# Altium schematic symbol library MercurialSDR.SchLib: 60 symbols
Pins are listed as number, name and electrical type; pins without a type are passive.

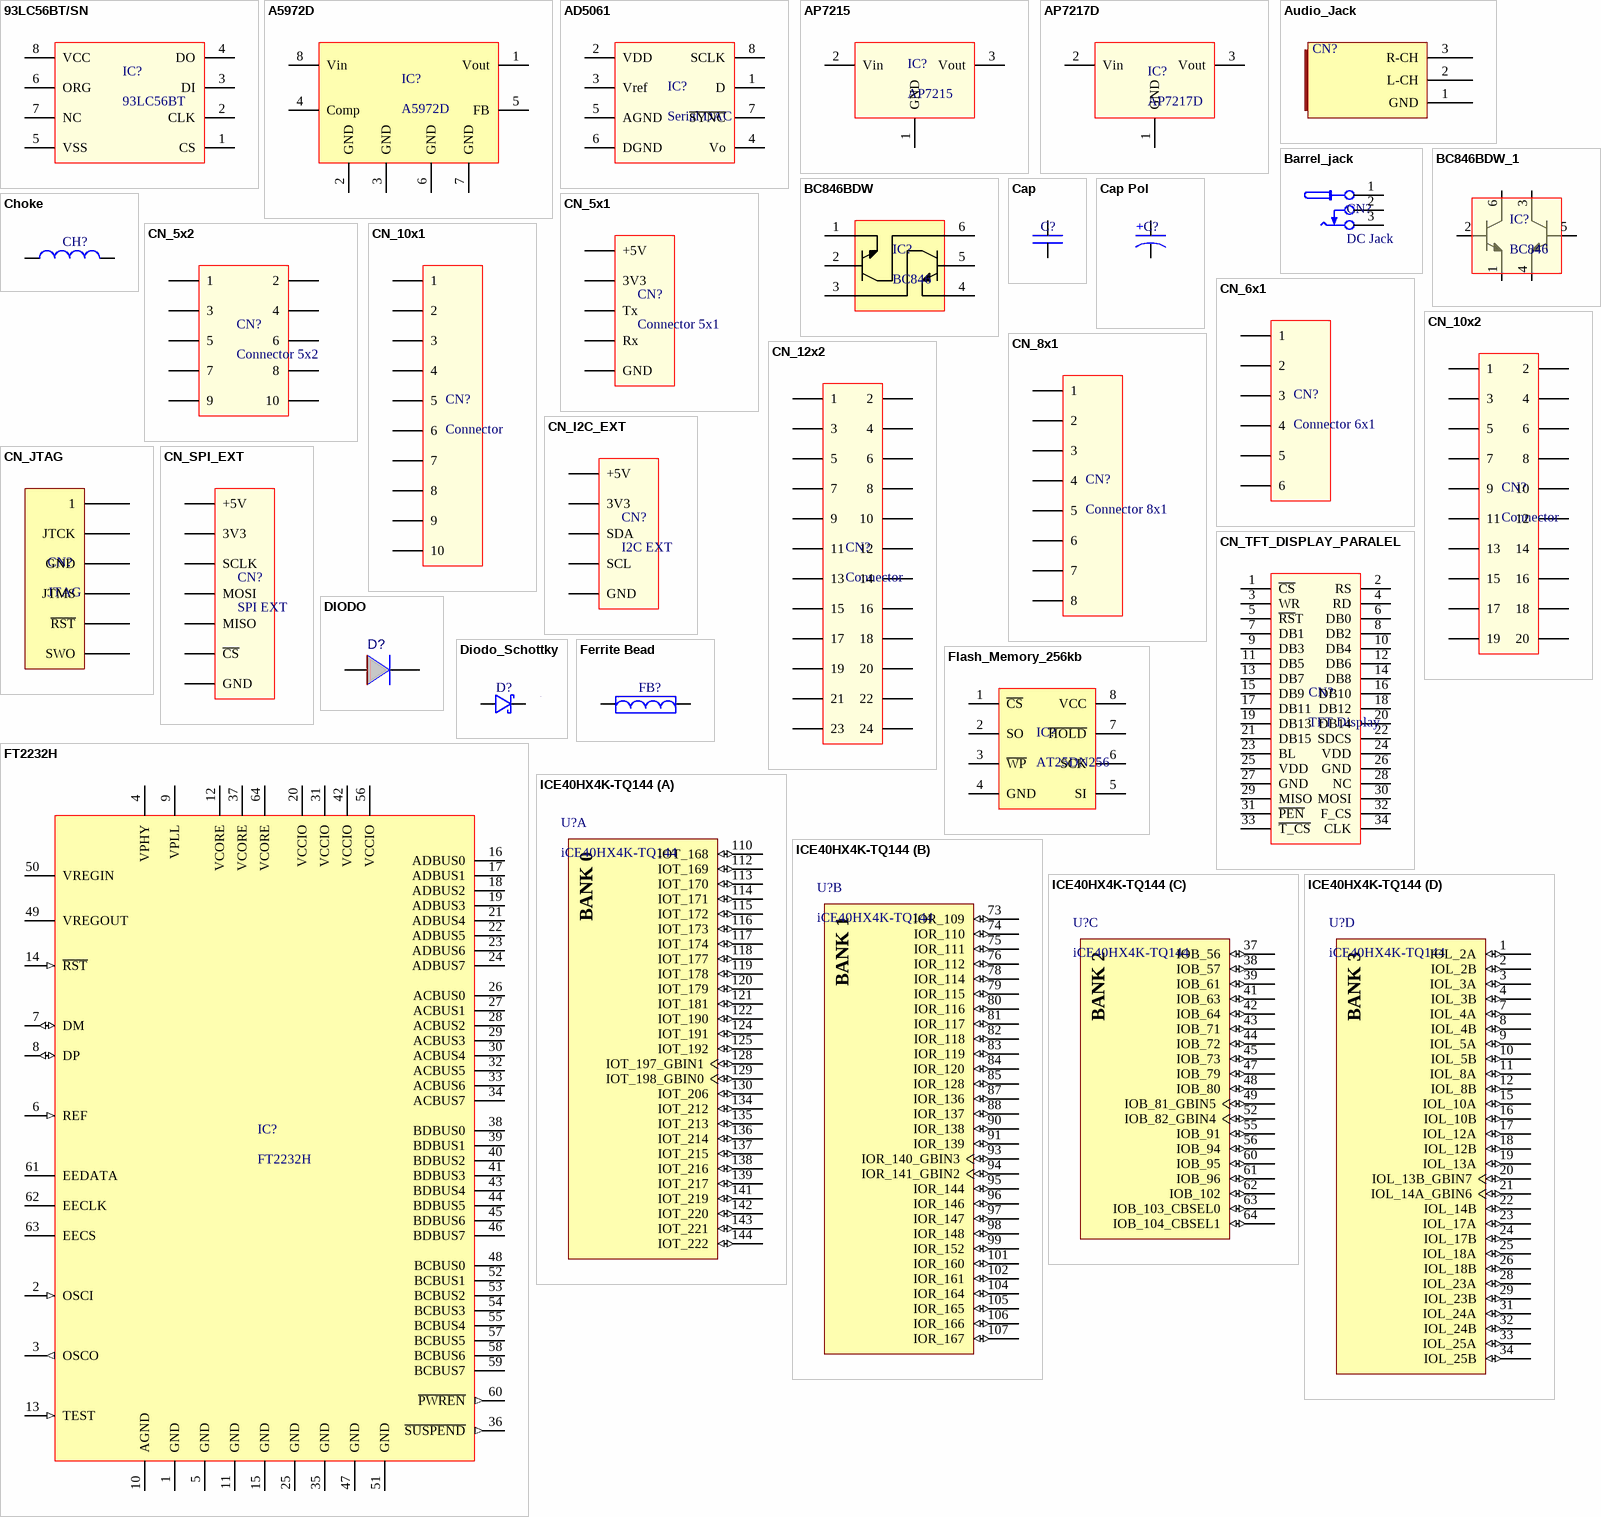
[diagram p0: symbols 93LC56BT/SN to ICE40HX4K-TQ144]

## 93LC56BT/SN
designator IC?, comment 93LC56BT
EEPROM SPI 2kb (128x16)
pins: 1 CS, 2 CLK, 3 DI, 4 DO, 5 VSS, 6 ORG, 7 NC, 8 VCC

## A5972D
designator IC?
Switching Regulator; Part Number: *
pins: 1 Vout, 2 GND, 3 GND, 4 Comp, 5 FB, 6 GND, 7 GND, 8 Vin

## AD5061
designator IC?, comment Serial DAC
DAC SPI; Bits: *; Part Number: *
footprint SOT-23-8
pins: 1 D "SPI Data Input", 2 VDD "Power Supply Input", 3 Vref "Reference Voltage Input", 4 Vo "Analog Voltage Output", 5 AGND "Analog Ground", 6 DGND "Digital Ground", 7 ~{SYNC} "Level Triggered Control Input", 8 SCLK "Serial Clock Input"

## AP7215
designator IC?
Linear Voltage Regulator 3v3; Part Number: *
pins: 1 GND, 2 Vin, 3 Vout

## AP7217D
designator IC?
Linear Voltage Regulator 1V2; Part Number: *
pins: 1 GND, 2 Vin, 3 Vout

## Audio_Jack
designator CN?, comment AUD_IN  (value not drawn)
Jack de audio estereo; Part Number: *
pins: 1 GND, 2 L-CH, 3 R-CH

## Barrel_jack
designator CN?, comment DC Jack
Part Number: *
pins: 1, 2, 3

## BC846BDW
designator IC?, comment BC846
TBJ NPN Dual; Part Number: *; Package: *
pins: 1 E_1, 2 B_1, 3 C_2, 4 E_2, 5 B_2, 6 C_1

## BC846BDW_1
designator IC?, comment BC846
TBJ NPN Dual; Part Number: *; Package: *
pins: 1 E_1, 2 B_1, 3 C_2, 4 E_2, 5 B_2, 6 C_1

## Cap
designator C?, comment Capacitor  (value not drawn)
Capacitor no polarizado; Value: *; Temp Coef: *; Part Number: *; VR: *; Material: *
footprint Cap_0805 (Capacitor SMD 0805)
footprint CAP_0603 (Capacitor SMD 0603)
pins: 1, 2

## Cap Pol
designator C?, comment Capacitor Polarizado  (value not drawn)
Value: *; Temp Coef: *; Part Number: *; VR: *; Material: *
pins: 1, 2
text: +

## Choke
designator CH?  (value not drawn)
Part Number: *; In: *
pins: 1, 2

## CN_5x1
designator CN?, comment Connector 5x1
Conector para UART o CAN
pins: 1 +5V, 2 3V3, 3 Tx, 4 Rx, 5 GND

## CN_5x2
designator CN?, comment Connector 5x2
Conector genérnico 5x2
pins: 1, 2, 3, 4, 5, 6, 7, 8, 9, 10

## CN_6x1
designator CN?, comment Connector 6x1
Conector genérico 6x1
pins: 1, 2, 3, 4, 5, 6

## CN_8x1
designator CN?, comment Connector 8x1
Conector genérico 8x1
pins: 1, 2, 3, 4, 5, 6, 7, 8

## CN_10x1
designator CN?, comment Connector
Conector genérico 10x1
pins: 1, 2, 3, 4, 5, 6, 7, 8, 9, 10

## CN_10x2
designator CN?, comment Connector
Conector genérico 10x2; Part Number: *
pins: 1, 2, 3, 4, 5, 6, 7, 8, 9, 10, 11, 12, 13, 14, 15, 16, 17, 18, 19, 20

## CN_12x2
designator CN?, comment Connector
Conector genérico 12x2; Part Number: *
footprint CON_12x2 (Conector 12x2)
pins: 1, 2, 3, 4, 5, 6, 7, 8, 9, 10, 11, 12, 13, 14, 15, 16, 17, 18, 19, 20, 21, 22, 23, 24

## CN_I2C_EXT
designator CN?, comment I2C EXT
Conector I2C para dispositivo externo
pins: 1 +5V, 2 3V3, 3 SDA, 4 SCL, 5 GND

## CN_JTAG
designator CN?, comment JTAG
Conector 6x1
pins: 1, 2 JTCK, 3 GND, 4 JTMS, 5 ~{RST}, 6 SWO

## CN_SPI_EXT
designator CN?, comment SPI EXT
Conector para dispositivo SPI externo
pins: 1 +5V, 2 3V3, 3 SCLK, 4 MOSI, 5 MISO, 6 ~{CS}, 7 GND

## CN_TFT_DISPLAY_PARALEL
designator CN?, comment TFT Display
Conector para pantalla TFT paralelo 34 pines
pins: 1 ~{CS} "LCD Reset control", 2 RS "LCD Register/Data Selector", 3 WR "LCD Write control", 4 RD "LCD Read contro", 5 ~{RS}T "LCD Reset", 6 DB0, 7 DB1, 8 DB2, 9 DB3, 10 DB4, 11 DB5, 12 DB6, 13 DB7, 14 DB8, 15 DB9, 16 DB10, 17 DB11, 18 DB12, 19 DB13, 20 DB14, 21 DB15, 22 SDCS "SD Selection control pin", 23 BL "LCD Backlight", 24 VDD "3V3 o +5V", 25 VDD "3V3 o +5V", 26 GND, 27 GND, 28 NC, 29 MISO "Touchscreen SPI", 30 MOSI "Touchscreen SPI", 31 ~{PEN} "Touchscreen interrupt detection", 32 F_CS "Flash chip select", 33 ~{T_CS} "Tocuhscreen IC chip select", 34 CLK "Touchscreen SPI"

## DIODO
designator D?  (value not drawn)
Diode signal; IN: *; Part Number: *; VR: *
footprint D_SMA
pins: 1 A, 2 K

## Diodo_Schottky
designator D?, comment Schottky Diode  (value not drawn)
Diodo Schottkey; Part Number: *; In: *; VR: *
pins: 1 A, 2 K

## Ferrite Bead
designator FB?  (value not drawn)
Part Number: *; In: *
pins: 1, 2

## Flash_Memory_256kb
designator IC?, comment AT25DN256
Flash Memory 256kb SPI; Part Number: *; Mem Size: *
pins: 1 ~{CS} "Chip select", 2 SO "Serial Output", 3 ~{WP} "Write Protect", 4 GND, 5 SI "Serial Input", 6 SCK "Serial Clock", 7 ~{HOLD} "Hold pin", 8 VCC "Vcc"

## FT2232H
designator IC?
USB bridge; Part Number: *
pins: 1 GND (power) "Ground", 2 OSCI (in) "Oscilator input", 3 OSCO (out) "Oscilator output", 4 VPHY (power) "Internal USB power suppy input (3V3)", 5 GND (power) "Ground", 6 REF (in) "Current reference", 7 DM (io) "USB Data -", 8 DP (io) "USB Data +", 9 VPLL (power) "Internal PHY PLL power supply input (3V3)", 10 AGND (power) "Analog ground", 11 GND (power) "Ground", 12 VCORE (power) "Core supply voltage input (1V8)", 13 TEST (in) "Test pin", 14 ~{RST} (in) "Reset input", 15 GND (power) "Ground", 16 ADBUS0 "Channel A data bus 0", 17 ADBUS1 "Channel A data bus 1", 18 ADBUS2 "Channel A data bus 2", 19 ADBUS3 "Channel A data bus 3", 20 VCCIO (power) "I/O interface power supply input (3V3)", 21 ADBUS4 "Channel A data bus 4", 22 ADBUS5 "Channel A data bus 5", 23 ADBUS6 "Channel A data bus 6", 24 ADBUS7 "Channel A data bus 7", 25 GND (power) "Ground", 26 ACBUS0 "Channel A control bus 0", 27 ACBUS1 "Channel A control bus 1", 28 ACBUS2 "Channel A control bus 2", 29 ACBUS3 "Channel A control bus 3", 30 ACBUS4 "Channel A control bus 4", 31 VCCIO (power) "I/O interface power supply input (3V3)", 32 ACBUS5 "Channel A control bus 5", 33 ACBUS6 "Channel A control bus 6", 34 ACBUS7 "Channel A control bus 7", 35 GND (power) "Ground", 36 ~{SUSPEND} (out) "Active low when USB is suspend", 37 VCORE (power) "Core supply voltage input (1V8)", 38 BDBUS0 "Channel B data bus 0", 39 BDBUS1 "Channel B data bus 1", 40 BDBUS2 "Channel B data bus 2", 41 BDBUS3 "Channel B data bus 3", 42 VCCIO (power) "I/O interface power supply input (3V3)", 43 BDBUS4 "Channel B data bus 4", 44 BDBUS5 "Channel B data bus 5", 45 BDBUS6 "Channel B data bus 6", 46 BDBUS7 "Channel B data bus 7", 47 GND (power) "Ground", 48 BCBUS0 "Channel B control bus 0", 49 VREGOUT (power) "1.8V regulator output", 50 VREGIN (power) "1.8V regulator input", 51 GND (power) "Ground", 52 BCBUS1 "Channel B control bus 1", 53 BCBUS2 "Channel B control bus 2", 54 BCBUS3 "Channel B control bus 3", 55 BCBUS4 "Channel B control bus 4", 56 VCCIO (power) "I/O interface power supply input (3V3)", 57 BCBUS5 "Channel B control bus 5", 58 BCBUS6 "Channel B control bus 6", 59 BCBUS7 "Channel B control bus 7", 60 ~{PWREN} (out) "Goes high when suspend", 61 EEDATA "EEPROM data I/O", 62 EECLK "EEPROM clock", 63 EECS "EEPROM chip select", 64 VCORE (power) "Core supply voltage input (1V8)"

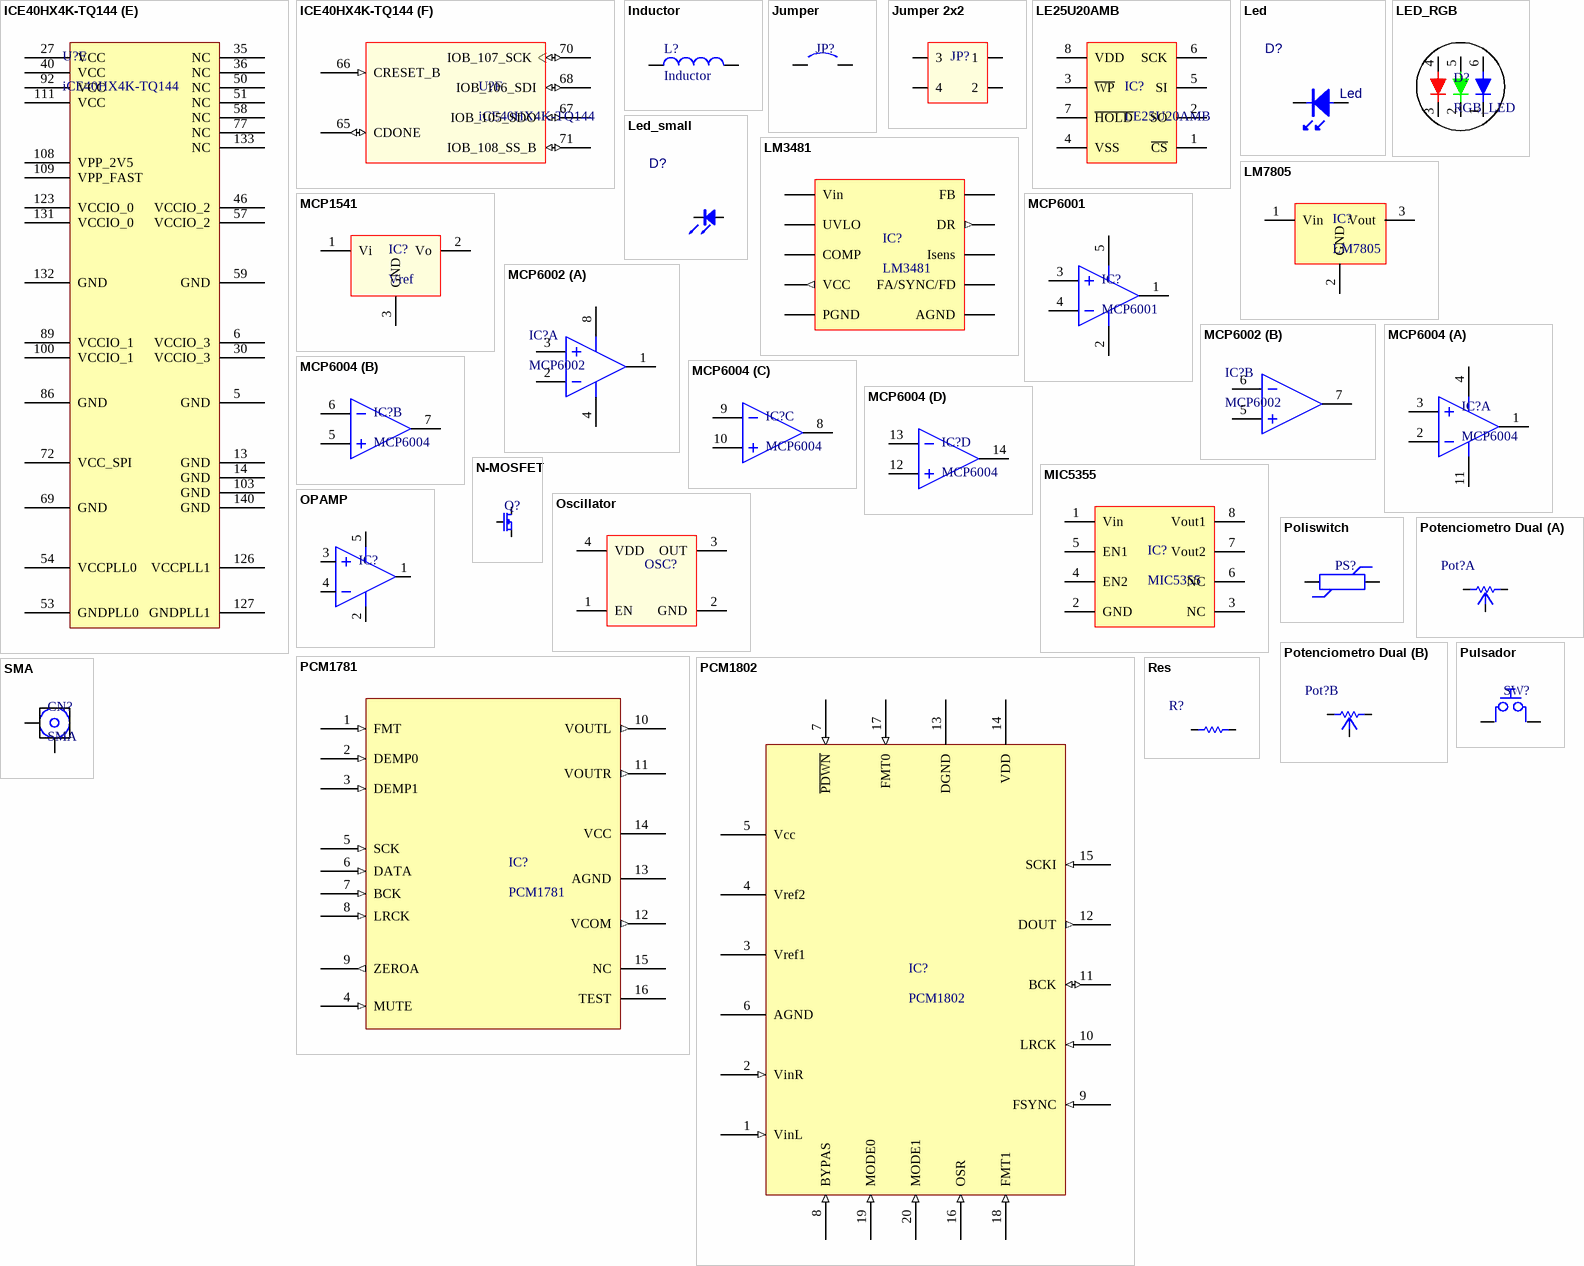
[diagram p1: symbols ICE40HX4K-TQ144 to SMA]

## ICE40HX4K-TQ144
designator U?, comment iCE40HX4K-TQ144
iCE40 HX4K Series FPGA Family, 3520 Logic Cells, 1.2 V Core, 80 K Embedded RAM Bits, 144-pin TQFP, Pb-Free, Tray; Manufacturer: Lattice Semiconductor; Phase-Locked Loops: 2; Supply Voltage: 1.2V; Logic Cells: 3520; Embedded RAM Bits: 80K; ComponentLink1Description: Manufacturer URL; ComponentLink2Description: Datasheet; DatasheetVersion: Rev. 02.9; Mounting Technology: Surface Mount; ComponentLink3URL: http://www.latticesemi.com/lit/docs/package/pkg.pdf; ComponentLink3Description: Package Specification; ComponentLink1URL: http://www.latticesemi.com/en; ComponentLink2URL: http://www.latticesemi.com/~/media/Documents/DataSheets/iCE/iCE40LPHXFamilyDataSheet.pdf; PackageReference: TQFP-144; Packing: Tray; PartNumber: ICE40HX4K-TQ144; PackageDescription: 144-Pin Thin Quad Flat Package, Body 20 x 20 mm, Pitch 0.5 mm; PackageVersion: Rev. 03.9, 02/2013; RoHS: TRUE
footprint LATC-TQFP-144_L
footprint LATC-TQFP-144_M
footprint LATC-TQFP-144_N
part A pins: 110 IOT_168 (io), 112 IOT_169 (io), 113 IOT_170 (io), 114 IOT_171 (io), 115 IOT_172 (io), 116 IOT_173 (io), 117 IOT_174 (io), 118 IOT_177 (io), 119 IOT_178 (io), 120 IOT_179 (io), 121 IOT_181 (io), 122 IOT_190 (io), 124 IOT_191 (io), 125 IOT_192 (io), 128 IOT_197_GBIN1 (io), 129 IOT_198_GBIN0 (io), 130 IOT_206 (io), 134 IOT_212 (io), 135 IOT_213 (io), 136 IOT_214 (io), 137 IOT_215 (io), 138 IOT_216 (io), 139 IOT_217 (io), 141 IOT_219 (io), 142 IOT_220 (io), 143 IOT_221 (io), 144 IOT_222 (io)
part B pins: 73 IOR_109 (io), 74 IOR_110 (io), 75 IOR_111 (io), 76 IOR_112 (io), 78 IOR_114 (io), 79 IOR_115 (io), 80 IOR_116 (io), 81 IOR_117 (io), 82 IOR_118 (io), 83 IOR_119 (io), 84 IOR_120 (io), 85 IOR_128 (io), 87 IOR_136 (io), 88 IOR_137 (io), 90 IOR_138 (io), 91 IOR_139 (io), 93 IOR_140_GBIN3 (io), 94 IOR_141_GBIN2 (io), 95 IOR_144 (io), 96 IOR_146 (io), 97 IOR_147 (io), 98 IOR_148 (io), 99 IOR_152 (io), 101 IOR_160 (io), 102 IOR_161 (io), 104 IOR_164 (io), 105 IOR_165 (io), 106 IOR_166 (io), 107 IOR_167 (io)
part C pins: 37 IOB_56 (io), 38 IOB_57 (io), 39 IOB_61 (io), 41 IOB_63 (io), 42 IOB_64 (io), 43 IOB_71 (io), 44 IOB_72 (io), 45 IOB_73 (io), 47 IOB_79 (io), 48 IOB_80 (io), 49 IOB_81_GBIN5 (io), 52 IOB_82_GBIN4 (io), 55 IOB_91 (io), 56 IOB_94 (io), 60 IOB_95 (io), 61 IOB_96 (io), 62 IOB_102 (io), 63 IOB_103_CBSEL0 (io), 64 IOB_104_CBSEL1 (io)
part D pins: 1 IOL_2A (io), 2 IOL_2B (io), 3 IOL_3A (io), 4 IOL_3B (io), 7 IOL_4A (io), 8 IOL_4B (io), 9 IOL_5A (io), 10 IOL_5B (io), 11 IOL_8A (io), 12 IOL_8B (io), 15 IOL_10A (io), 16 IOL_10B (io), 17 IOL_12A (io), 18 IOL_12B (io), 19 IOL_13A (io), 20 IOL_13B_GBIN7 (io), 21 IOL_14A_GBIN6 (io), 22 IOL_14B (io), 23 IOL_17A (io), 24 IOL_17B (io), 25 IOL_18A (io), 26 IOL_18B (io), 28 IOL_23A (io), 29 IOL_23B (io), 31 IOL_24A (io), 32 IOL_24B (io), 33 IOL_25A (io), 34 IOL_25B (io)
part E pins: 5 GND (power) "GND - Ground. Dedicated pins. It is recommended that all GNDs are tied together.", 6 VCCIO_3 (power) "VCCIO - The power supply pins for I/O Bank 3. Dedicated pins. All VCCIOs located in the same bank are tied to the same supply.", 13 GND (power) "GND - Ground. Dedicated pins. It is recommended that all GNDs are tied together.", 14 GND (power) "GND - Ground. Dedicated pins. It is recommended that all GNDs are tied together.", 27 VCC (power) "VCC - The power supply pins for core logic. Dedicated pins. It is recommended that all VCCs are tied to the same supply.", 30 VCCIO_3 (power) "VCCIO - The power supply pins for I/O Bank 3. Dedicated pins. All VCCIOs located in the same bank are tied to the same supply.", 35 NC "No connect", 36 NC "No connect", 40 VCC (power) "VCC - The power supply pins for core logic. Dedicated pins. It is recommended that all VCCs are tied to the same supply.", 46 VCCIO_2 (power) "VCCIO - The power supply pins for I/O Bank 2. Dedicated pins. All VCCIOs located in the same bank are tied to the same supply.", 50 NC "No connect", 51 NC "No connect", 53 GNDPLL0 (power) "PLL GND - Ground. Dedicated pins. The sysCLOCK PLL has the DC ground connection made on the FPGA, so the external PLL ground connection (GNDPLL) must NOT be connected to the board’s ground", 54 VCCPLL0 (power) "PLL VCC - Power. Dedicated pins. The PLL requires a separate power and ground that is quiet and stable to reduce the output clock jitter of the PLL", 57 VCCIO_2 (power) "VCCIO - The power supply pins for I/O Bank 2. Dedicated pins. All VCCIOs located in the same bank are tied to the same supply.", 58 NC "No connect", 59 GND (power) "GND - Ground. Dedicated pins. It is recommended that all GNDs are tied together.", 69 GND (power) "GND - Ground. Dedicated pins. It is recommended that all GNDs are tied together.", 72 VCC_SPI (power) "SPI interface voltage supply input. Must have a valid voltage even if configuring from NVCM.", 77 NC "No connect", 86 GND (power) "GND - Ground. Dedicated pins. It is recommended that all GNDs are tied together.", 89 VCCIO_1 (power) "VCCIO - The power supply pins for I/O Bank 1. Dedicated pins. All VCCIOs located in the same bank are tied to the same supply.", 92 VCC (power) "VCC - The power supply pins for core logic. Dedicated pins. It is recommended that all VCCs are tied to the same supply.", 100 VCCIO_1 (power) "VCCIO - The power supply pins for I/O Bank 1. Dedicated pins. All VCCIOs located in the same bank are tied to the same supply.", 103 GND (power) "GND - Ground. Dedicated pins. It is recommended that all GNDs are tied together.", 108 VPP_2V5 (power) "VPP_2V5 NVCM programming and operating supply", 109 VPP_FAST (power) "Optional fast NVCM programming supply. VPP_FAST, used only for fast production programming, must be left floating or unconnected in applications, except CM36 and CM49 packages MUST have the VPP_FAST ball connected to VCCIO_0 (See Datasheet)", 111 VCC (power) "VCC - The power supply pins for core logic. Dedicated pins. It is recommended that all VCCs are tied to the same supply.", 123 VCCIO_0 (power) "VCCIO - The power supply pins for I/O Bank 0. Dedicated pins. All VCCIOs located in the same bank are tied to the same supply.", 126 VCCPLL1 (power) "PLL VCC - Power. Dedicated pins. The PLL requires a separate power and ground that is quiet and stable to reduce the output clock jitter of the PLL", 127 GNDPLL1 (power) "PLL GND - Ground. Dedicated pins. The sysCLOCK PLL has the DC ground connection made on the FPGA, so the external PLL ground connection (GNDPLL) must NOT be connected to the board’s ground", 131 VCCIO_0 (power) "VCCIO - The power supply pins for I/O Bank 0. Dedicated pins. All VCCIOs located in the same bank are tied to the same supply.", 132 GND (power) "GND - Ground. Dedicated pins. It is recommended that all GNDs are tied together.", 133 NC "No connect", 140 GND (power) "GND - Ground. Dedicated pins. It is recommended that all GNDs are tied together."
part F pins: 65 CDONE (io) "Configuration Done. Includes a permanent weak pull-up resistor to VCCIO_2. If driving external devices with CDONE output, an external pull-up resistor to VCCIO_2 may be required. Refer to the TN1248, iCE40 Programming and (See Datasheet)", 66 CRESET_B (in) "Configuration Reset, active Low. Dedicated input. No internal pull-up resistor. Either actively drive externally or connect a 10 KOhm pull-up resistor to VCCIO_2.", 67 IOB_105_SDO (io), 68 IOB_106_SDI (io), 70 IOB_107_SCK (io), 71 IOB_108_SS_B (io)
part A text: BANK 0
part B text: BANK 1
part C text: BANK 2
part D text: BANK 3

## Inductor
designator L?
Code_IEC: 1005; Value: 10mH; Published: 8-Jun-2000; LatestRevisionDate: 29-May-2009; LatestRevisionNote: IPC-7351 Footprint Added.; PackageReference: 0402-A; Publisher: Altium Limited; PackageDescription: Chip Inductor; Code_JEITA: 0402; Part Number: *
pins: 1, 2

## Jumper
designator JP?  (value not drawn)
Part Number: *
footprint Jumper 2x1
pins: 1, 2

## Jumper 2x2
designator JP?, comment Jumper  (value not drawn)
Jumper 2x2
footprint Jumper 2x2
pins: 1, 2, 3, 4

## LE25U20AMB
designator IC?
Flash Memmory SPI (256Kx8); Part Number: *
footprint SOIC-8 (Memoria Flash 256kb SOIC-8)
pins: 1 ~{CS}, 2 SO, 3 ~{WP}, 4 VSS, 5 SI, 6 SCK, 7 ~{HOLD}, 8 VDD

## Led
designator D?
Color: *; Part Number: *
pins: 1 A, 2 K

## LED_RGB
designator D?, comment RGB_LED
Led RGB; Part Number: *
pins: 1 BK "Blue Cathode", 2 GK "Green Cathode", 3 RK "Red Cathode", 4 RA "Red Anode", 5 GA "Green Anode", 6 BA "Blue Anode"

## Led_small
designator D?  (value not drawn)
Color: *; Part Number: *
pins: 1 A, 2 K

## LM3481
designator IC?
Switching source - Boost; Part Number: *
pins: 1 Isens "Muestreo de corriente", 2 UVLO "Under voltage lockput", 3 COMP "Compensation pin", 4 FB "Feedback", 5 AGND "Analog ground", 6 FA/SYNC/FD "Frequency adjust, synchronization, shutdown", 7 PGND "Power ground", 8 DR (out) "Drive pin", 9 VCC (out) "Driver supply voltage", 10 Vin "Power supply input"

## LM7805
designator IC?
Regulador Lineal 5V; Part Number: *
pins: 1 Vin, 2 GND, 3 Vout

## MCP1541
designator IC?, comment Vref
Reference Voltage; Reference Voltage: *; Part Number: *
pins: 1 Vi "Data input", 2 Vo "Data input", 3 GND "Data input"

## MCP6001
designator IC?
Opamp single R2R
pins: 1 OUT, 2 VSS (power), 3 IN+, 4 IN-, 5 VDD (power)

## MCP6002
designator IC?
Opamp Dual R2R; Part Number: *
footprint SOIC8
footprint DIP8
part A pins: 1 OUT, 2 IN-, 3 IN+, 4 VSS (power), 8 VDD (power)
part B pins: 5 IN+, 6 IN-, 7 OUT

## MCP6004
designator IC?
Opamp Quad R2R; Part Number: *; Package: SOIC
part A pins: 1 OUT A, 2 IN- A, 3 IN+ A, 4 VCC (power), 11 VEE
part B pins: 5 IN+ B, 6 IN- B, 7 OUT B
part C pins: 8 OUT C, 9 IN- C, 10 IN+ C
part D pins: 12 IN+ D, 13 IN- D, 14 OUT D

## MIC5355
designator IC?
Linea Regulator Dual; Part Number: *
pins: 1 Vin, 2 GND, 3 NC, 4 EN2 "Output 2 Enable", 5 EN1 "Output 1 Enable", 6 NC, 7 Vout2, 8 Vout1

## N-MOSFET
designator Q?, comment N-Mosfet  (value not drawn)
Part Number: *
pins: 1 D "Drain", 2 G "Gate", 3 S "Source"

## OPAMP
designator IC?  (value not drawn)
Operational Amplifier; Part Number: *
pins: 1 Vo, 2 Vss, 3 V+, 4 V-, 5 VDD

## Oscillator
designator OSC?  (value not drawn)
Oscilador de 4 terminales; Part Number: *; Frequency: *
pins: 1 EN, 2 GND, 3 OUT, 4 VDD

## PCM1781
designator IC?
DAC 24bits I2S; Part Number: *
pins: 1 FMT (in) "Format", 2 DEMP0 (in) "De-emphasis control 0", 3 DEMP1 (in) "De-emphasis control 1", 4 MUTE (in) "Software mute control", 5 SCK (in) "System clock", 6 DATA (in) "Audio data digital input", 7 BCK (in) "Audio data bitclock input", 8 LRCK (in) "Audio data left/right clock input", 9 ZEROA (out) "Zero flag for R/L channel output", 10 VOUTL (out) "Analog output channel L", 11 VOUTR (out) "Analog output channel R", 12 VCOM (out) "Common voltage decoupling", 13 AGND (power) "Analog GND", 14 VCC (power) "Power supply", 15 NC, 16 TEST

## PCM1802
designator IC?
ADC 24bits I2S; Part Number: *
pins: 1 VinL (in), 2 VinR (in), 3 Vref1 "Reference decoupling", 4 Vref2 "Reference voltage input", 5 Vcc (power) "Analog power supply", 6 AGND (power) "Analog GND", 7 ~{PDWN} (in) "Power down control", 8 BYPAS (in) "HPF bypass control", 9 FSYNC (in) "Frame synchronus clock", 10 LRCK (in) "Sampling clock", 11 BCK (io) "Bit clock", 12 DOUT (out) "Digital audio output", 13 DGND (power) "Digital GND", 14 VDD (power) "Digital power supply", 15 SCKI (in) "System clock", 16 OSR (in) "Oversampling ratio", 17 FMT0 (in) "Audio data format 0", 18 FMT1 (in) "Audio data format 1", 19 MODE0 (in) "Mode select 0", 20 MODE1 (in) "Mode select 1"

## Poliswitch
designator PS?  (value not drawn)
Polishwitch; Part Number: *; Ih: *; V: *
pins: 1, 2

## Potenciometro Dual
designator Pot?, comment Pot Dual  (value not drawn)
Power: *; Part Number: *
footprint 0805 (Pasivo 0805)
footprint POTE_DUAL_TH (Potenciometro Dual Through Hole)
part A pins: 1, 2, 3
part B pins: 4, 5, 6

## Pulsador
designator SW?  (value not drawn)
pins: 1, 2 hidden, 3 hidden, 4

## Res
designator R?, comment Resistor SMD  (value not drawn)
Resistor; Power: *; Part Number: *; Tolerance: *
footprint 0805 (Pasivo 0805)
footprint RES_0603 (Resistor SMD 0603)
pins: 1, 2

## SMA
designator CN?
Conector SMA; Part Number: *
pins: 1 Vin, 2 GND

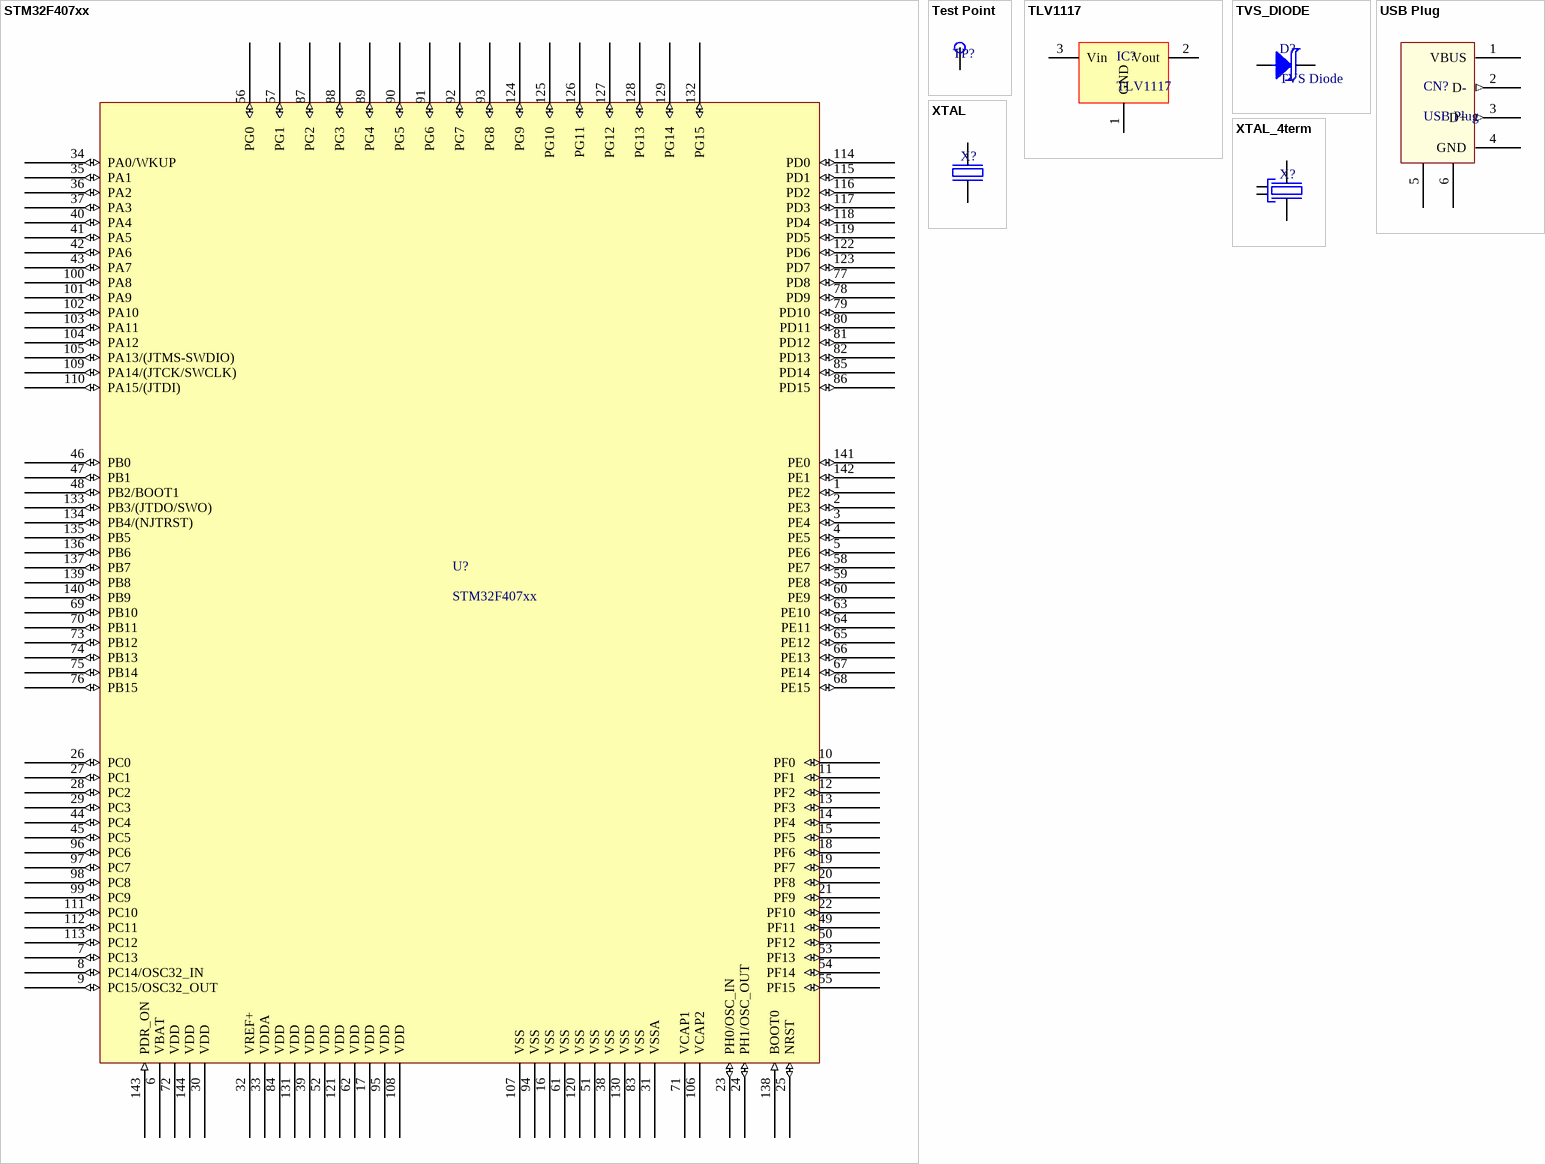
[diagram p2: symbols STM32F407xx to XTAL_4term]

## STM32F407xx
designator U?
Cortex M4 uC; Part Number: *
footprint LQPF_144
pins: 1 PE2 (io) "TRACECLK/ FSMC_A23/ETH_MII_TXD3/EVENTOUT", 2 PE3 (io) "TRACED0/FSMC_A19/EVENTOUT", 3 PE4 (io) "TRACED1/FSMC_A20/DCMI_D4/EVENTOUT", 4 PE5 (io) "TRACED2/ FSMC_A21/TIM9_CH1/ DCMI_D6/EVENTOUT", 5 PE6 (io) "TRACED3/ FSMC_A22/TIM9_CH2/DCMI_D7/EVENTOUT", 6 VBAT (power), 7 PC13 (io) "EVENTOUT", 8 PC14/OSC32_IN (io) "EVENTOUT/OSC32_IN", 9 PC15/OSC32_OUT (io) "EVENTOUT/OSC32_OUT", 10 PF0 (io) "FSMC_A0/ I2C2_SDA/EVENTOUT", 11 PF1 (io) "FSMC_A1/ I2C2_SCL/EVENTOUT", 12 PF2 (io) "FSMC_A2 / I2C2_SMBA /EVENTOUT", 13 PF3 (io) "FSMC_A3/EVENTOUT/ADC3_IN9", 14 PF4 (io) "FSMC_A4/EVENTOUT/ADC3_IN14", 15 PF5 (io) "FSMC_A5/EVENTOUT/ADC3_IN15", 16 VSS (power) "TIM10_CH1 /FSMC_NIORD/EVENTOUT/ADC3_IN4", 17 VDD (power), 18 PF6 (io) "TIM10_CH1 /FSMC_NIORD/EVENTOUT/ADC3_IN4", 19 PF7 (io) "TIM11_CH1/FSMC_NREG/EVENTOUT/ADC3_IN5", 20 PF8 (io) "TIM13_CH1 /FSMC_NIOWR/EVENTOUT/ADC3_IN6", 21 PF9 (io) "TIM14_CH1 / FSMC_CD/EVENTOUTADC3_IN7", 22 PF10 (io) "FSMC_INTR/ EVENTOUT/ADC3_IN8", 23 PH0/OSC_IN (io) "EVENTOUT/OSC_IN", 24 PH1/OSC_OUT (io) "EVENTOUT/OSC_OUT", 25 NRST (io), 26 PC0 (io) "OTG_HS_ULPI_STP/EVENTOUT/ADC123_IN10", 27 PC1 (io) "ETH_MDC/ EVENTOUT/ADC123_IN11", 28 PC2 (io) "SPI2_MISO /OTG_HS_ULPI_DIR /ETH_MII_TXD2/I2S2ext_SD/ EVENTOUT/ADC123_IN12", 29 PC3 (io) "SPI2_MOSI / I2S2_SD /OTG_HS_ULPI_NXT /ETH_MII_TX_CLK/EVENTOUT/ADC123_IN13", 30 VDD (power), 31 VSSA (power), 32 VREF+ (power), 33 VDDA (power), 34 PA0/WKUP (io) "USART2_CTS/UART4_TX/ETH_MII_CRS /TIM2_CH1_ETR/TIM5_CH1 / TIM8_ETR/EVENTOUT/ADC123_IN0/WKU", 35 PA1 (io) "USART2_RTS /UART4_RX/ETH_RMII_REF_CLK /ETH_MII_RX_CLK /TIM5_CH2 / TIM2_CH2/EVENTOUT/ADC123_IN1", 36 PA2 (io) "USART2_TX/TIM5_CH3 /TIM9_CH1 / TIM2_CH3 /ETH_MDIO/ EVENTOUT/ADC123_IN2", 37 PA3 (io) "USART2_RX/TIM5_CH4 /TIM9_CH2 / TIM2_CH4 /OTG_HS_ULPI_D0 /ETH_MII_COL/EVENTOUT/ADC123_IN3", 38 VSS (power), 39 VDD (power), 40 PA4 (io) "SPI1_NSS / SPI3_NSS /USART2_CK /DCMI_HSYNC /OTG_HS_SOF/ I2S3_WS/EVENTOUT/ADC12_IN4/DAC_OUT1", 41 PA5 (io) "SPI1_SCK/OTG_HS_ULPI_CK /TIM2_CH1_ETR/TIM8_CH1N/ EVENTOUT/ADC12_IN5/DAC_OUT2", 42 PA6 (io) "SPI1_MISO /TIM8_BKIN/TIM13_CH1 /DCMI_PIXCLK / TIM3_CH1/ TIM1_BKIN/ EVENTOUT/ADC12_IN6", 43 PA7 (io) "SPI1_MOSI/ TIM8_CH1N /TIM14_CH1/TIM3_CH2/ETH_MII_RX_DV /TIM1_CH1N /ETH_RMII_CRS_DV/EVENTOUT/ADC12_IN7", 44 PC4 (io) "ETH_RMII_RX_D0 /ETH_MII_RX_D0/EVENTOUT/ADC12_IN14", 45 PC5 (io) "ETH_RMII_RX_D1 /ETH_MII_RX_D1/EVENTOUT/ADC12_IN15", 46 PB0 (io) "TIM3_CH3 / TIM8_CH2N/OTG_HS_ULPI_D1/ETH_MII_RXD2 /TIM1_CH2N/ EVENTOUT/ADC12_IN8", 47 PB1 (io) "TIM3_CH4 / TIM8_CH3N/OTG_HS_ULPI_D2/ETH_MII_RXD3 /TIM1_CH3N/ EVENTOUT/ADC12_IN9", 48 PB2/BOOT1 (io) "EVENTOUT", 49 PF11 (io) "DCMI_D12/ EVENTOUT", 50 PF12 (io) "FSMC_A6/ EVENTOUT", 51 VSS (power), 52 VDD (power), 53 PF13 (io) "FSMC_A7/ EVENTOUT", 54 PF14 (io) "FSMC_A8/ EVENTOUT", 55 PF15 (io) "FSMC_A9/ EVENTOUT", 56 PG0 (io) "FSMC_A10/ EVENTOUT", 57 PG1 (io) "FSMC_A11/ EVENTOUT", 58 PE7 (io) "FSMC_D4/TIM1_ETR/EVENTOUT", 59 PE8 (io) "FSMC_D5/ TIM1_CH1N/EVENTOUT", 60 PE9 (io) "FSMC_D6/TIM1_CH1/EVENTOUT", 61 VSS (power), 62 VDD (power), 63 PE10 (io) "FSMC_D7/TIM1_CH2N/EVENTOUT", 64 PE11 (io) "FSMC_D8/TIM1_CH2/EVENTOUT", 65 PE12 (io) "FSMC_D9/TIM1_CH3N/EVENTOUT", 66 PE13 (io) "FSMC_D10/TIM1_CH3/EVENTOUT", 67 PE14 (io) "FSMC_D11/TIM1_CH4/EVENTOUT", 68 PE15 (io) "FSMC_D12/TIM1_BKIN/EVENTOUT", 69 PB10 (io) "SPI2_SCK / I2S2_CK /I2C2_SCL/ USART3_TX /OTG_HS_ULPI_D3 /ETH_MII_RX_ER /TIM2_CH3/ EVENTOUT", 70 PB11 (io) "I2C2_SDA/USART3_RX/OTG_HS_ULPI_D4 /ETH_RMII_TX_EN/ETH_MII_TX_EN /TIM2_CH4/ EVENTOUT", 71 VCAP1 (power), 72 VDD (power), 73 PB12 (io) "SPI2_NSS / I2S2_WS /I2C2_SMBA/USART3_CK/ TIM1_BKIN /CAN2_RX /OTG_HS_ULPI_D5/ETH_RMII_TXD0 /ETH_MII_TXD0/OTG_HS_ID/ EVENTOUT", 74 PB13 (io) "SPI2_SCK / I2S2_CK /USART3_CTS/TIM1_CH1N /CAN2_TX /OTG_HS_ULPI_D6 /ETH_RMII_TXD1 /ETH_MII_TXD1/EVENTOUT/OTG_HS_VBUS", 75 PB14 (io) "SPI2_MISO/ TIM1_CH2N /TIM12_CH1 /OTG_HS_DM/USART3_RTS /TIM8_CH2N/I2S2ext_SD/EVENTOUT", 76 PB15 (io) "SPI2_MOSI / I2S2_SD/TIM1_CH3N / TIM8_CH3N/ TIM12_CH2 /OTG_HS_DP/ EVENTOUT/RTC_REFIN", 77 PD8 (io) "FSMC_D13 / USART3_TX/EVENTOUT", 78 PD9 (io) "FSMC_D14 / USART3_RX/EVENTOUT", 79 PD10 (io) "FSMC_D15 / USART3_CK/EVENTOUT", 80 PD11 (io) "FSMC_CLE /FSMC_A16/USART3_CTS/EVENTOUT", 81 PD12 (io) "FSMC_ALE/FSMC_A17/TIM4_CH1 /USART3_RTS/EVENTOUT", 82 PD13 (io) "FSMC_A18/TIM4_CH2/EVENTOUT", 83 VSS (power), 84 VDD (power), 85 PD14 (io) "FSMC_D0/TIM4_CH3/EVENTOUT/", 86 PD15 (io) "FSMC_D1/TIM4_CH4/EVENTOUT", 87 PG2 (io) "FSMC_A12/ EVENTOUT", 88 PG3 (io) "FSMC_A13/ EVENTOUT", 89 PG4 (io) "FSMC_A14/ EVENTOUT", 90 PG5 (io) "FSMC_A15/ EVENTOUT", 91 PG6 (io) "FSMC_INT2/ EVENTOUT", 92 PG7 (io) "FSMC_INT3 /USART6_CK/EVENTOUT", 93 PG8 (io) "USART6_RTS /ETH_PPS_OUT/EVENTOUT", 94 VSS (power), 95 VDD (power), 96 PC6 (io) "I2S2_MCK /TIM8_CH1/SDIO_D6 /USART6_TX /DCMI_D0/TIM3_CH1/EVENTOUT", 97 PC7 (io) "I2S3_MCK /TIM8_CH2/SDIO_D7 /USART6_RX /DCMI_D1/TIM3_CH2/EVENTOUT", 98 PC8 (io) "TIM8_CH3/SDIO_D0//TIM3_CH3/ USART6_CK /DCMI_D2/ EVENTOUT", 99 PC9 (io) "I2S_CKIN/ MCO2 /TIM8_CH4/SDIO_D1 //I2C3_SDA / DCMI_D3 /TIM3_CH4/ EVENTOUT", 100 PA8 (io) "MCO1 / USART1_CK/TIM1_CH1/ I2C3_SCL/OTG_FS_SOF/EVENTOUT", 101 PA9 (io) "USART1_TX/ TIM1_CH2 /I2C3_SMBA / DCMI_D0/EVENTOUT/OTG_FS_VBUS", 102 PA10 (io) "USART1_RX/ TIM1_CH3/OTG_FS_ID/DCMI_D1/EVENTOUT", 103 PA11 (io) "USART1_CTS / CAN1_RX/ TIM1_CH4 /OTG_FS_DM/ EVENTOUT", 104 PA12 (io) "USART1_RTS / CAN1_TX/TIM1_ETR/ OTG_FS_DP/EVENTOUT", 105 PA13/(JTMS-SWDIO) (io) "JTMS-SWDIO/ EVENTOUT", 106 VCAP2 (power), 107 VSS (power), 108 VDD (power), 109 PA14/(JTCK/SWCLK) (io) "JTCK-SWCLK/ EVENTOUT", 110 PA15/(JTDI) (io) "JTDI/ SPI3_NSS/I2S3_WS/TIM2_CH1_ETR/SPI1_NSS / EVENTOUT", 111 PC10 (io) "SPI3_SCK / I2S3_CK/UART4_TX/SDIO_D2 /DCMI_D8 / USART3_TX/EVENTOUT", 112 PC11 (io) "UART4_RX/ SPI3_MISO /SDIO_D3 /DCMI_D4/USART3_RX /I2S3ext_SD/ EVENTOUT", 113 PC12 (io) "UART5_TX/SDIO_CK /DCMI_D9 / SPI3_MOSI/I2S3_SD / USART3_CK/EVENTOUT", 114 PD0 (io) "FSMC_D2/CAN1_RX/EVENTOUT", 115 PD1 (io) "FSMC_D3 / CAN1_TX/EVENTOUT", 116 PD2 (io) "TIM3_ETR/UART5_RX/SDIO_CMD / DCMI_D11/EVENTOUT", 117 PD3 (io) "FSMC_CLK/USART2_CTS/EVENTOUT", 118 PD4 (io) "FSMC_NOE/USART2_RTS/EVENTOUT", 119 PD5 (io) "FSMC_NWE/USART2_TX/EVENTOUT", 120 VSS (power), 121 VDD (power), 122 PD6 (io) "FSMC_NWAIT/USART2_RX/ EVENTOUT", 123 PD7 (io) "USART2_CK/FSMC_NE1/FSMC_NCE2/ EVENTOUT", 124 PG9 (io) "USART6_RX /FSMC_NE2/FSMC_NCE3/EVENTOUT", 125 PG10 (io) "FSMC_NCE4_1/FSMC_NE3/ EVENTOUT", 126 PG11 (io) "FSMC_NCE4_2 /ETH_MII_TX_EN/ETH _RMII_TX_EN/EVENTOUT", 127 PG12 (io) "FSMC_NE4 /USART6_RTS/EVENTOUT", 128 PG13 (io) "FSMC_A24 /USART6_CTS/ETH_MII_TXD0/ETH_RMII_TXD0/EVENTOUT", 129 PG14 (io) "FSMC_A25 / USART6_TX/ETH_MII_TXD1/ETH_RMII_TXD1/EVENTOUT", 130 VSS (power), 131 VDD (power), 132 PG15 (io) "USART6_CTS /DCMI_D13/ EVENTOUT", 133 PB3/(JTDO/SWO) (io) "JTDO/ TRACESWO/SPI3_SCK / I2S3_CK /TIM2_CH2 / SPI1_SCK/EVENTOUT", 134 PB4/(NJTRST) (io) "NJTRST/ SPI3_MISO /TIM3_CH1 / SPI1_MISO /I2S3ext_SD/ EVENTOUT", 135 PB5 (io) "I2C1_SMBA/ CAN2_RX /OTG_HS_ULPI_D7 /ETH_PPS_OUT/TIM3_CH2/ SPI1_MOSI/ SPI3_MOSI /DCMI_D10 / I2S3_SD/EVENTOUT", 136 PB6 (io) "I2C1_SCL/ TIM4_CH1 /CAN2_TX /DCMI_D5/USART1_TX/EVENTOUT", 137 PB7 (io) "I2C1_SDA / FSMC_NL /DCMI_VSYNC /USART1_RX/ TIM4_CH2/EVENTOUT", 138 BOOT0 (in) "VPP", 139 PB8 (io) "TIM4_CH3/SDIO_D4/TIM10_CH1 / DCMI_D6 /ETH_MII_TXD3 /I2C1_SCL/ CAN1_RX/EVENTOUT", 140 PB9 (io) "SPI2_NSS/ I2S2_WS /TIM4_CH4/ TIM11_CH1/SDIO_D5 / DCMI_D7 /I2C1_SDA / CAN1_TX/EVENTOUT", 141 PE0 (io) "TIM4_ETR / FSMC_NBL0 /DCMI_D2/ EVENTOUT", 142 PE1 (io) "FSMC_NBL1 / DCMI_D3/EVENTOUT", 143 PDR_ON (in), 144 VDD (power)

## Test Point
designator TP?  (value not drawn)
TP Name: *
footprint TP_TH
footprint TP_TOP
pins: 1 TP? "Source"

## TLV1117
designator IC?
Linear Regulator 3v3; Imax: 800mA; Part Number: *
pins: 1 GND, 2 Vout, 3 Vin

## TVS_DIODE
designator D?, comment TVS Diode
TVS (Supresor de transitorios); Part Number: *; V: *
pins: 1 A, 2 K

## USB Plug
designator CN?
Part Number: *
pins: 1 VBUS (power), 2 D- (out) "USB Data -", 3 D+ (out) "USB Data +", 4 GND (power), 5 Shield, 6 Shield

## XTAL
designator X?  (value not drawn)
Oscilador a Cristal; Frquency: *
pins: 1, 2

## XTAL_4term
designator X?  (value not drawn)
Oscilador a Cristal; Frquency: *
pins: 1 "In/Out", 2 "GND", 3 "Out/In", 4 "GND"